# EAGLE library part RADIO_RFM69W (library TD-MySensors)
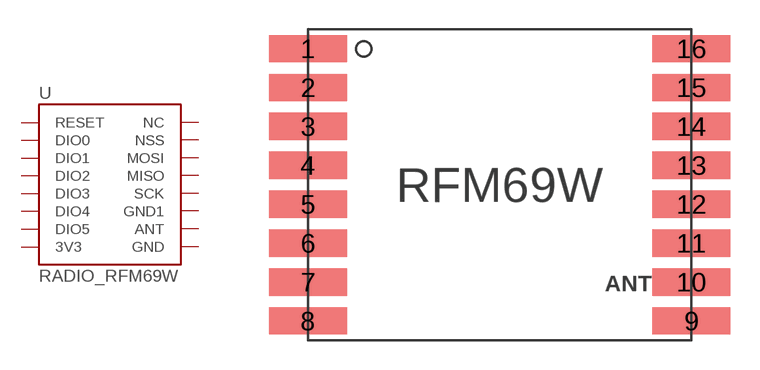
[diagram p3: symbol with the pads of RFM69W; footprint RFM69W]

Designator prefix -

## RADIO_RFM69W  [RFM69W]
1  RESET
2  DIO0
3  DIO1
4  DIO2
5  DIO3
6  DIO4
7  DIO5
8  3V3  pwr
9  GND  pwr
10  ANT
11  GND1  pwr
12  SCK
13  MISO
14  MOSI
15  NSS
16  NC  nc

## Footprint RFM69W (pad centres in mm)
Radio module based on the RFM69 chip from HopeRF
smd 4 x 1.4: 1 -9.85,7; 2 -9.85,5; 3 -9.85,3; 4 -9.85,1; 5 -9.85,-1; 6 -9.85,-3; 7 -9.85,-5; 8 -9.85,-7; 9 9.85,-7; 10 9.85,-5; 11 9.85,-3; 12 9.85,-1; 13 9.85,1; 14 9.85,3; 15 9.85,5; 16 9.85,7